# EAGLE library part TEENSY-LESS-PINS (library CMU-ArtFab)
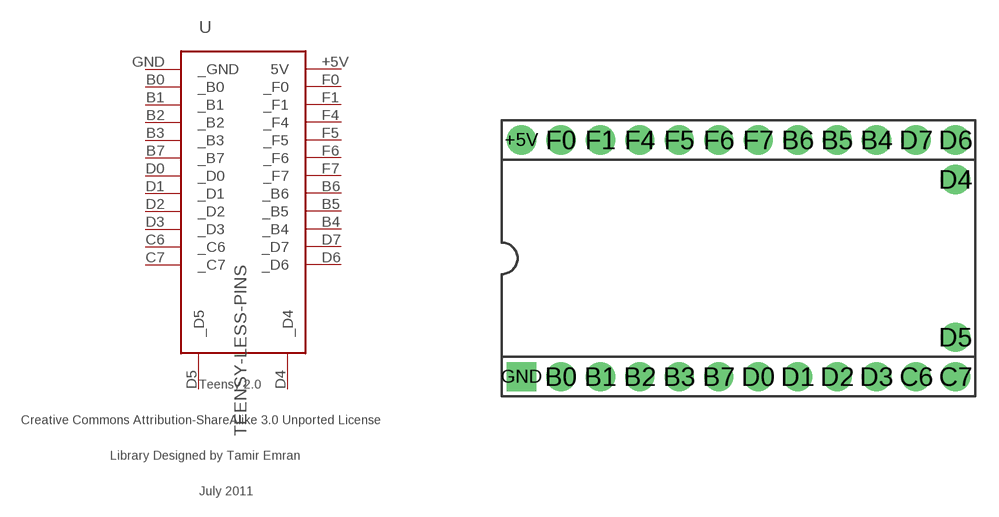
[diagram p12: symbol with the pads of TEENSY-LESS-PINS; footprint TEENSY-LESS-PINS]

Designator prefix -

## TEENSY-LESS-PINS  [TEENSY-LESS-PINS]
+5V  5V
B0  _B0
B1  _B1
B2  _B2
B3  _B3
B4  _B4
B5  _B5
B6  _B6
B7  _B7
C6  _C6
C7  _C7
D0  _D0
D1  _D1
D2  _D2
D3  _D3
D4  _D4
D5  _D5
D6  _D6
D7  _D7
F0  _F0
F1  _F1
F4  _F4
F5  _F5
F6  _F6
F7  _F7
GND  _GND

## Footprint TEENSY-LESS-PINS (pad centres in mm)
drill 1.016 pad 1.88: +5V -13.97,10.16; B0 -11.43,-5.08; B1 -8.89,-5.08; B2 -6.35,-5.08; B3 -3.81,-5.08; B4 8.89,10.16; B5 6.35,10.16; B6 3.81,10.16; B7 -1.27,-5.08; C6 11.43,-5.08; C7 13.97,-5.08; D0 1.27,-5.08; D1 3.81,-5.08; D2 6.35,-5.08; D3 8.89,-5.08; D4 13.97,7.62; D5 13.97,-2.54; D6 13.97,10.16; D7 11.43,10.16; F0 -11.43,10.16; F1 -8.89,10.16; F4 -6.35,10.16; F5 -3.81,10.16; F6 -1.27,10.16; F7 1.27,10.16
drill 1.016 pad 1.88 square: GND -13.97,-5.08